# Altium footprint library SparkFun-Connectors.PCBLIB: 344 footprints (part 16 of 22)
Each footprint in its own frame and in the unit in brackets; x right, y up, seen from the top. Pads: shape width x height; smd on the part's side, far side on the other; paste and mask are expansions set on the pad; w line width, h text height; cw(c..) or ccw(c..) is an arc to the next point about the centre after c.
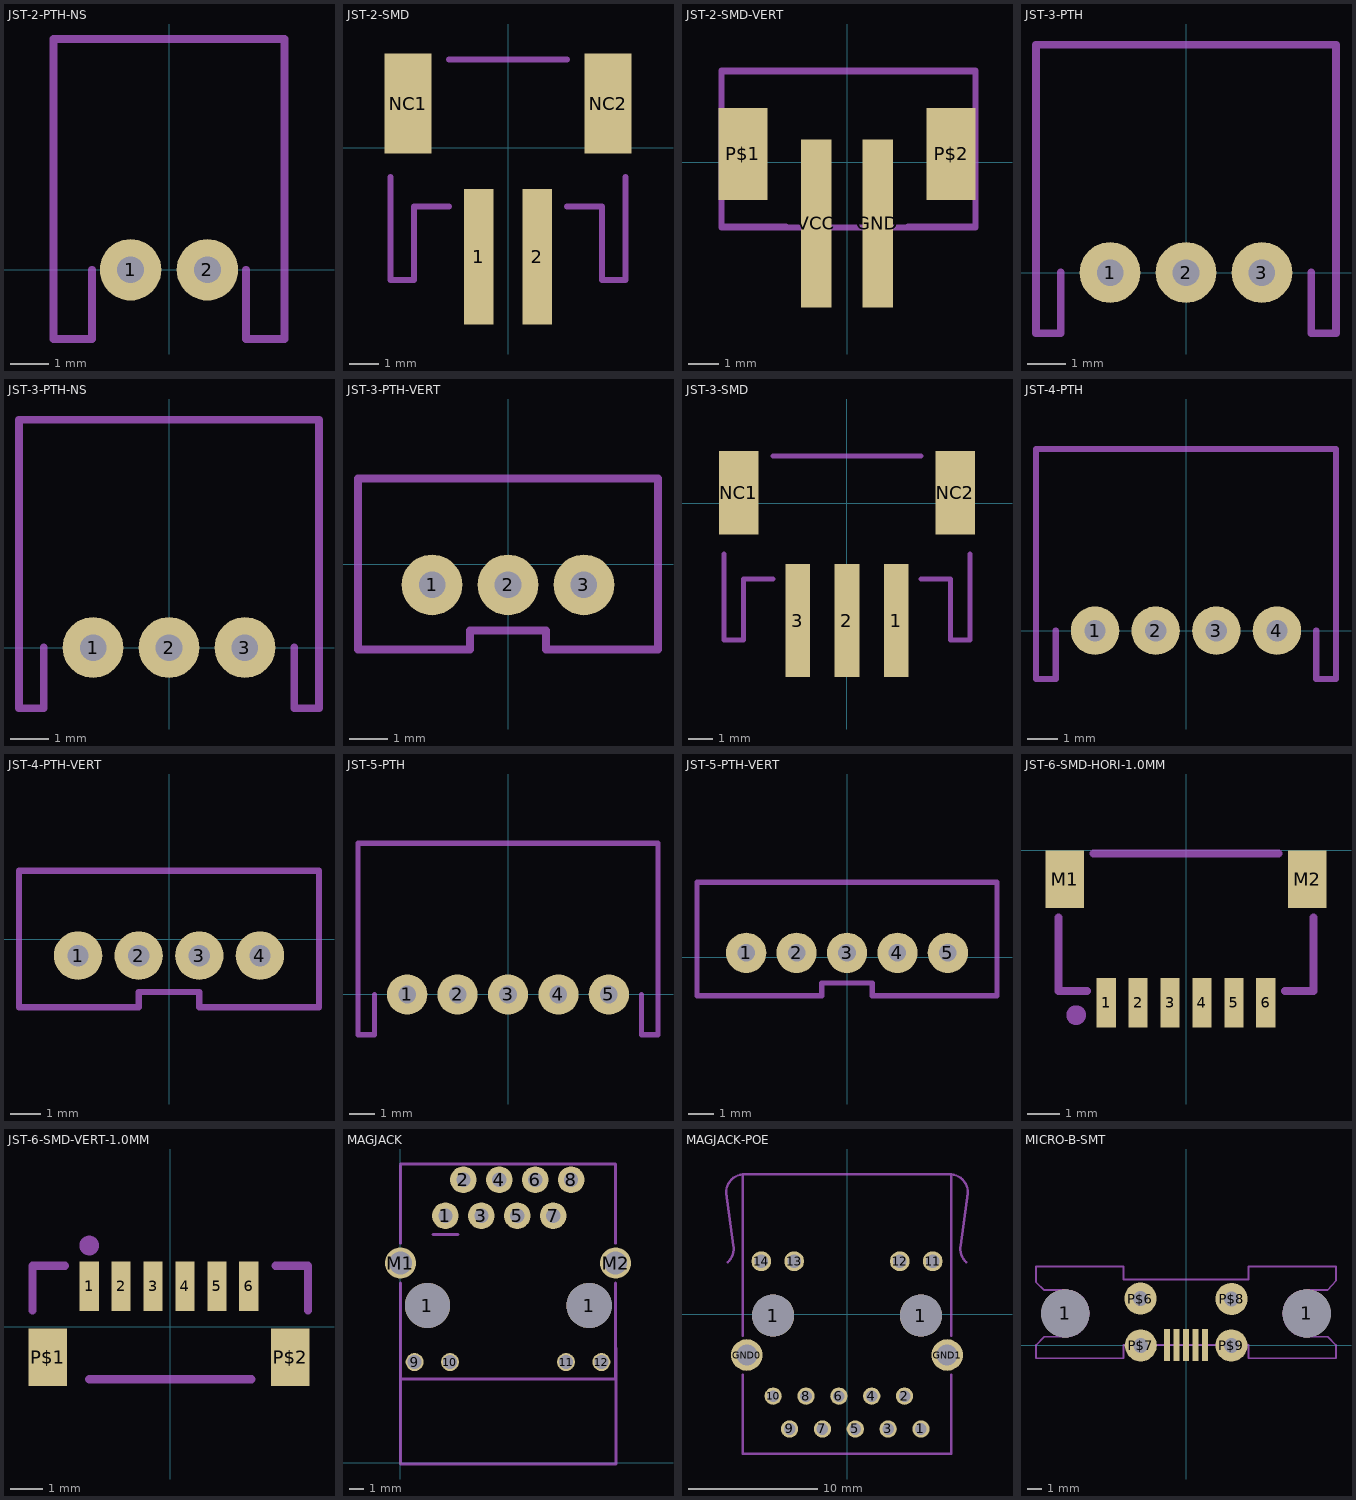
[diagram p15: the footprints below, top view; thin cyan lines are the x and y axes]

## JST-2-PTH-NS [mm]
pads (2):
  round 1.6 / inner round 1.524 / far side round 1.6 hole 0.7: 1(-1,0) 2(1,0)
Mechanical 8:
  lines w0.203: -2,0 -2,-1.8 -3,-1.8 -3,6 3,6 3,-1.8 2,-1.8 2,0

## JST-2-SMD [mm]
pads (4):
  rect 1x4.6 smd: 1(-1,-3.7) 2(1,-3.7)
  rect 1.6x3.4 smd: NC1(-3.4,1.5) NC2(3.4,1.5)
Mechanical 22:
  lines w0.203: -4,-1 -4,-4.5 -3.2,-4.5 -3.2,-2 -2,-2 ; -2,3 2,3 ; 2,-2 3.2,-2 3.2,-4.5 4,-4.5 4,-1

## JST-2-SMD-VERT [mm]
pads (4):
  rect 1x5.5 smd: GND(1,-2) VCC(-1,-2)
  rect 1.6x3 smd: P$1(-3.4,0.27) P$2(3.4,0.27)
Mechanical 8:
  lines w0.203: -4.1,-2.13 4.2,-2.13 4.2,2.97 -4.1,2.97 -4.1,-2.13
Mechanical 22:
  lines w0.203: -4.1,-1.8 -4.1,-2.1 -2,-2.1 ; -4.1,2.3 -4.1,3 4.2,3 4.2,2.3 ; 2,-2.1 4.2,-2.1 4.2,-1.7

## JST-3-PTH [mm]
pads (3):
  round 1.6 / inner round 1.524 / far side round 1.6 hole 0.7: 1(-2,0) 2(0,0) 3(2,0)
Mechanical 22:
  lines w0.203: -3.3,0 -3.3,-1.6 -3.95,-1.6 -3.95,6 3.95,6 3.95,-1.6 3.3,-1.6 3.3,0

## JST-3-PTH-NS [mm]
pads (3):
  round 1.6 / inner round 1.524 / far side round 1.6 hole 0.7: 1(-2,0) 2(0,0) 3(2,0)
Mechanical 8:
  lines w0.203: -3.3,0 -3.3,-1.6 -3.95,-1.6 -3.95,6 3.95,6 3.95,-1.6 3.3,-1.6 3.3,0

## JST-3-PTH-VERT [mm]
pads (3):
  round 1.6 / inner round 1.524 / far side round 1.6 hole 0.7: 1(-2,-0.55) 2(0,-0.55) 3(2,-0.55)
Mechanical 22:
  lines w0.203: -3.95,-2.25 -3.95,2.25 3.95,2.25 3.95,-2.25 1,-2.25 1,-1.75 -1,-1.75 -1,-2.25 -3.95,-2.25

## JST-3-SMD [mm]
pads (5):
  rect 1x4.6 smd: 1(2.01,-4.77) 2(0.01,-4.77) 3(-1.99,-4.77)
  rect 1.6x3.4 smd: NC1(-4.39,0.43) NC2(4.41,0.43)
Mechanical 22:
  lines w0.203: -4.99,-2.07 -4.99,-5.57 -4.19,-5.57 -4.19,-3.07 -2.99,-3.07 ; -2.99,1.93 3.01,1.93 ; 3.01,-3.07 4.21,-3.07 4.21,-5.57 5.01,-5.57 5.01,-2.07

## JST-4-PTH [mm]
pads (4):
  round 1.6 / inner round 1.524 / far side round 1.6 hole 0.7: 1(-3,0) 2(-1,0) 3(1,0) 4(3,0)
Mechanical 22:
  lines w0.203: -4.3,0 -4.3,-1.6 -4.95,-1.6 -4.95,6 4.95,6 4.95,-1.6 4.3,-1.6 4.3,0

## JST-4-PTH-VERT [mm]
pads (4):
  round 1.6 / inner round 1.524 / far side round 1.6 hole 0.7: 1(-3,-0.55) 2(-1,-0.55) 3(1,-0.55) 4(3,-0.55)
Mechanical 22:
  lines w0.203: -4.95,-2.25 -4.95,2.25 4.95,2.25 4.95,-2.25 1,-2.25 1,-1.75 -1,-1.75 -1,-2.25 -4.95,-2.25

## JST-5-PTH [mm]
pads (5):
  round 1.6 / inner round 1.524 / far side round 1.6 hole 0.7: 1(-4,0) 2(-2,0) 3(0,0) 4(2,0) 5(4,0)
Mechanical 22:
  lines w0.203: -5.3,0 -5.3,-1.6 -5.95,-1.6 -5.95,6 5.95,6 5.95,-1.6 5.3,-1.6 5.3,0

## JST-5-PTH-VERT [mm]
pads (5):
  round 1.6 / inner round 1.524 / far side round 1.6 hole 0.7: 1(-4,0.18) 2(-2,0.18) 3(0,0.18) 4(2,0.18) 5(4,0.18)
Mechanical 22:
  lines w0.203: -5.95,-1.52 -5.95,2.98 5.95,2.98 5.95,-1.52 1,-1.52 1,-1.02 -1,-1.02 -1,-1.52 -5.95,-1.52

## JST-6-SMD-HORI-1.0MM [mil]
pads (8):
  rect 23.62x61.02 smd: 1(-98.43,-187.99) 2(-59.06,-187.99) 3(-19.69,-187.99) 4(19.69,-187.99) 5(59.06,-187.99) 6(98.43,-187.99)
  rect 47.24x70.87 smd: M1(-149.61,-35.43) M2(149.61,-35.43)
Mechanical 22:
  circle w16: c-135.43,-203.15 r4.12
  lines w10: -157.48,-82.68 -157.48,-173.23 -122.05,-173.23 ; -114.17,-3.94 114.17,-3.94 ; 122.05,-173.23 157.48,-173.23 157.48,-82.68

## JST-6-SMD-VERT-1.0MM [mm]
pads (8):
  rect 0.6x1.55 smd: 1(-2.54,1.27) 2(-1.54,1.27) 3(-0.54,1.27) 4(0.46,1.27) 5(1.46,1.27) 6(2.46,1.27)
  rect 1.2x1.8 smd: P$1(-3.84,-0.955) P$2(3.76,-0.955)
Mechanical 22:
  circle w0.406: c-2.54,2.54 r0.105
  lines w0.254: -4.318,0.508 -4.318,1.905 -3.302,1.905 ; -2.54,-1.651 2.54,-1.651 ; 3.302,1.905 4.318,1.905 4.318,0.508

## MAGJACK [mil]
pads (16):
  round 125.98 hole 125.98 unplated: 1(75,436.81) 1(525,436.81)
  round 74 / inner round 60 / far side round 74 hole 39.37: 1(125,686.81) 2(175,786.81) 3(225,686.81) 4(275,786.81) 5(325,686.81) 6(375,786.81) 7(425,686.81) 8(475,786.81)
  round 50 / inner round 60 / far side round 50 hole 39.37: 9(39.37,279.53) 10(137.8,279.53) 11(460.63,279.53) 12(559.06,279.53)
  round 86 / inner round 60 / far side round 86 hole 62.99: M1(0,555.12) M2(598.43,555.12)
Mechanical 8:
  lines w8: 0,318.7 0,-4.13 600,-4.13 600,318.7
Mechanical 22:
  lines w8: 0,232.09 600,232.09 ; 0,236.22 0,500 ; 0,610.24 0,826.77 ; 0,830.51 596.06,830.51 ; 90,635 160,635 ; 598.43,232.28 598.43,500 ; 598.43,610.24 598.43,830.71
Mechanical 23:
  lines w8: 90,635 160,635

## MAGJACK-POE [mm]
pads (18):
  round 3.25 hole 3.25 unplated: 1(-5.715,-0.12) 1(5.715,-0.12)
  round 1.335 / inner round 1.524 / far side round 1.335 hole 0.89: 1(5.72,-8.89) 2(4.45,-6.35) 3(3.18,-8.89) 4(1.91,-6.35) 5(0.64,-8.89) 6(-0.63,-6.35) 7(-1.9,-8.89) 8(-3.17,-6.35) 9(-4.44,-8.89) 10(-5.71,-6.35)
  round 1.53 / inner round 1.524 / far side round 1.53 hole 1.02: 11(6.625,4.08) 12(4.085,4.08) 13(-4.085,4.08) 14(-6.625,4.08)
  round 2.445 / inner round 1.524 / far side round 2.445 hole 1.63: GND0(-7.745,-3.17) GND1(7.745,-3.17)
Mechanical 8:
  lines w0.178: -9.24,3.98 ccw(c-10.179,5.044) -8.787,5.319 -9.34,9.31 cw(c-7.95,9.41) -8.05,10.8 ; 8.05,10.8 cw(c7.95,9.41) 9.34,9.31 8.787,5.319 ccw(c10.179,5.044) 9.24,3.98
Mechanical 22:
  lines w0.178: -8.05,-4.7 -8.05,-10.8 8.05,-10.8 8.05,-4.7 ; -8.05,-1.7 -8.05,10.8 8.05,10.8 8.05,-1.7

## MICRO-B-SMT [mil]
pads (11):
  round 129.92 hole 129.92 unplated: 1(-325.79,85.43) 1(325.79,85.43)
  rect 15.75x86.61 smd: 1(-51.18,0) 2(-25.59,0) 3(0,0) 4(25.59,0) 5(51.18,0)
  round 86.61 / inner round 60 / far side round 86.61 hole 40: P$6(-122.86,125.32) P$7(-121.97,-1.06) P$8(122.91,124.42) P$9(122.36,-1.01)
Mechanical 8:
  lines w5: -404.53,-35.43 -404.53,0 -381.89,22.44 -325.79,22.44 ccw(c-325.79,85.44) -325.79,148.43 -381.89,148.43 -404.53,169.29 -404.53,211.81 -168.31,211.81 -168.31,176.38 168.31,176.38 168.31,211.81 404.53,211.81 404.53,173.23 381.89,148.43 325.79,148.43 ccw(c325.79,85.44) 325.79,22.44 381.89,22.44 404.53,0 404.53,-35.43 168.31,-35.43 168.31,0 -168.31,0 -168.31,-35.43 -404.53,-35.43